# EAGLE library part XC3S250E-TQ144 (library ic-Xilinx)
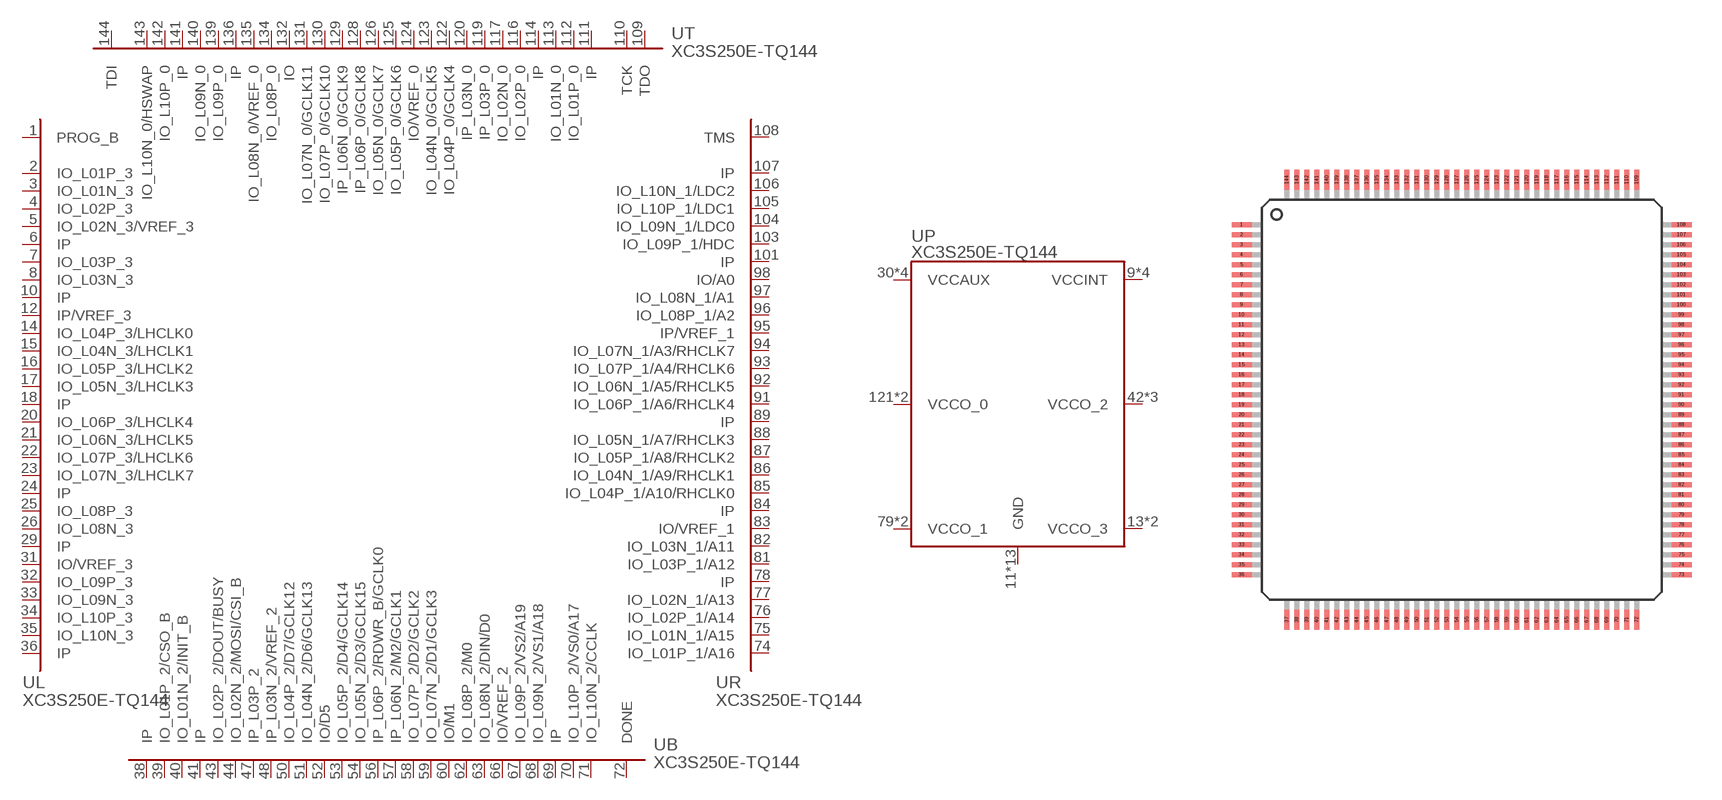
[diagram p1: symbol with the pads of QFP144-0.5; footprint QFP144-0.5]

Designator prefix U; gates L=XC3S250E-TQ144_LEFT B=XC3S250E-TQ144_BOTTOM R=XC3S250E-TQ144_RIGHT T=XC3S250E-TQ144_TOP P=XC3S250E-TQ144_POWER

## XC3S250E-TQ144  [QFP144-0.5]
1  L:PROG_B
2  L:IO_L01P_3
3  L:IO_L01N_3
4  L:IO_L02P_3
5  L:IO_L02N_3/VREF_3
6  L:IP
7  L:IO_L03P_3
8  L:IO_L03N_3
9  P:VCCINT
10  L:IP
11  P:GND
12  L:IP/VREF_3
13  P:VCCO_3
14  L:IO_L04P_3/LHCLK0
15  L:IO_L04N_3/LHCLK1
16  L:IO_L05P_3/LHCLK2
17  L:IO_L05N_3/LHCLK3
18  L:IP
19  P:GND
20  L:IO_L06P_3/LHCLK4
21  L:IO_L06N_3/LHCLK5
22  L:IO_L07P_3/LHCLK6
23  L:IO_L07N_3/LHCLK7
24  L:IP
25  L:IO_L08P_3
26  L:IO_L08N_3
27  P:GND
28  P:VCCO_3
29  L:IP
30  P:VCCAUX
31  L:IO/VREF_3
32  L:IO_L09P_3
33  L:IO_L09N_3
34  L:IO_L10P_3
35  L:IO_L10N_3
36  L:IP
37  P:GND
38  B:IP
39  B:IO_L01P_2/CSO_B
40  B:IO_L01N_2/INIT_B
41  B:IP
42  P:VCCO_2
43  B:IO_L02P_2/DOUT/BUSY
44  B:IO_L02N_2/MOSI/CSI_B
45  P:VCCINT
46  P:GND
47  B:IP_L03P_2
48  B:IP_L03N_2/VREF_2
49  P:VCCO_2
50  B:IO_L04P_2/D7/GCLK12
51  B:IO_L04N_2/D6/GCLK13
52  B:IO/D5
53  B:IO_L05P_2/D4/GCLK14
54  B:IO_L05N_2/D3/GCLK15
55  P:GND
56  B:IP_L06P_2/RDWR_B/GCLK0
57  B:IP_L06N_2/M2/GCLK1
58  B:IO_L07P_2/D2/GCLK2
59  B:IO_L07N_2/D1/GCLK3
60  B:IO/M1
61  P:GND
62  B:IO_L08P_2/M0
63  B:IO_L08N_2/DIN/D0
64  P:VCCO_2
65  P:VCCAUX
66  B:IO/VREF_2
67  B:IO_L09P_2/VS2/A19
68  B:IO_L09N_2/VS1/A18
69  B:IP
70  B:IO_L10P_2/VS0/A17
71  B:IO_L10N_2/CCLK
72  B:DONE
73  P:GND
74  R:IO_L01P_1/A16
75  R:IO_L01N_1/A15
76  R:IO_L02P_1/A14
77  R:IO_L02N_1/A13
78  R:IP
79  P:VCCO_1
80  P:VCCINT
81  R:IO_L03P_1/A12
82  R:IO_L03N_1/A11
83  R:IO/VREF_1
84  R:IP
85  R:IO_L04P_1/A10/RHCLK0
86  R:IO_L04N_1/A9/RHCLK1
87  R:IO_L05P_1/A8/RHCLK2
88  R:IO_L05N_1/A7/RHCLK3
89  R:IP
90  P:GND
91  R:IO_L06P_1/A6/RHCLK4
92  R:IO_L06N_1/A5/RHCLK5
93  R:IO_L07P_1/A4/RHCLK6
94  R:IO_L07N_1/A3/RHCLK7
95  R:IP/VREF_1
96  R:IO_L08P_1/A2
97  R:IO_L08N_1/A1
98  R:IO/A0
99  P:GND
100  P:VCCO_1
101  R:IP
102  P:VCCAUX
103  R:IO_L09P_1/HDC
104  R:IO_L09N_1/LDC0
105  R:IO_L10P_1/LDC1
106  R:IO_L10N_1/LDC2
107  R:IP
108  R:TMS
109  T:TDO
110  T:TCK
111  T:IP
112  T:IO_L01P_0
113  T:IO_L01N_0
114  T:IP
115  P:VCCINT
116  T:IO_L02P_0
117  T:IO_L02N_0
118  P:GND
119  T:IP_L03P_0
120  T:IP_L03N_0
121  P:VCCO_0
122  T:IO_L04P_0/GCLK4
123  T:IO_L04N_0/GCLK5
124  T:IO/VREF_0
125  T:IO_L05P_0/GCLK6
126  T:IO_L05N_0/GCLK7
127  P:GND
128  T:IP_L06P_0/GCLK8
129  T:IP_L06N_0/GCLK9
130  T:IO_L07P_0/GCLK10
131  T:IO_L07N_0/GCLK11
132  T:IO
133  P:GND
134  T:IO_L08P_0
135  T:IO_L08N_0/VREF_0
136  T:IP
137  P:VCCAUX
138  P:VCCO_0
139  T:IO_L09P_0
140  T:IO_L09N_0
141  T:IP
142  T:IO_L10P_0
143  T:IO_L10N_0/HSWAP
144  T:TDI

## Footprint QFP144-0.5 (pad centres in mm)
smd 1 x 0.25: 1 -11,8.75; 2 -11,8.25; 3 -11,7.75; 4 -11,7.25; 5 -11,6.75; 6 -11,6.25; 7 -11,5.75; 8 -11,5.25; 9 -11,4.75; 10 -11,4.25; 11 -11,3.75; 12 -11,3.25; 13 -11,2.75; 14 -11,2.25; 15 -11,1.75; 16 -11,1.25; 17 -11,0.75; 18 -11,0.25; 19 -11,-0.25; 20 -11,-0.75; 21 -11,-1.25; 22 -11,-1.75; 23 -11,-2.25; 24 -11,-2.75; 25 -11,-3.25; 26 -11,-3.75; 27 -11,-4.25; 28 -11,-4.75; 29 -11,-5.25; 30 -11,-5.75; 31 -11,-6.25; 32 -11,-6.75; 33 -11,-7.25; 34 -11,-7.75; 35 -11,-8.25; 36 -11,-8.75; 73 11,-8.75; 74 11,-8.25; 75 11,-7.75; 76 11,-7.25; 77 11,-6.75; 78 11,-6.25; 79 11,-5.75; 80 11,-5.25; 81 11,-4.75; 82 11,-4.25; 83 11,-3.75; 84 11,-3.25; 85 11,-2.75; 86 11,-2.25; 87 11,-1.75; 88 11,-1.25; 89 11,-0.75; 90 11,-0.25; 91 11,0.25; 92 11,0.75; 93 11,1.25; 94 11,1.75; 95 11,2.25; 96 11,2.75; 97 11,3.25; 98 11,3.75; 99 11,4.25; 100 11,4.75; 101 11,5.25; 102 11,5.75; 103 11,6.25; 104 11,6.75; 105 11,7.25; 106 11,7.75; 107 11,8.25; 108 11,8.75
smd 0.25 x 1: 37 -8.75,-11; 38 -8.25,-11; 39 -7.75,-11; 40 -7.25,-11; 41 -6.75,-11; 42 -6.25,-11; 43 -5.75,-11; 44 -5.25,-11; 45 -4.75,-11; 46 -4.25,-11; 47 -3.75,-11; 48 -3.25,-11; 49 -2.75,-11; 50 -2.25,-11; 51 -1.75,-11; 52 -1.25,-11; 53 -0.75,-11; 54 -0.25,-11; 55 0.25,-11; 56 0.75,-11; 57 1.25,-11; 58 1.75,-11; 59 2.25,-11; 60 2.75,-11; 61 3.25,-11; 62 3.75,-11; 63 4.25,-11; 64 4.75,-11; 65 5.25,-11; 66 5.75,-11; 67 6.25,-11; 68 6.75,-11; 69 7.25,-11; 70 7.75,-11; 71 8.25,-11; 72 8.75,-11; 109 8.75,11; 110 8.25,11; 111 7.75,11; 112 7.25,11; 113 6.75,11; 114 6.25,11; 115 5.75,11; 116 5.25,11; 117 4.75,11; 118 4.25,11; 119 3.75,11; 120 3.25,11; 121 2.75,11; 122 2.25,11; 123 1.75,11; 124 1.25,11; 125 0.75,11; 126 0.25,11; 127 -0.25,11; 128 -0.75,11; 129 -1.25,11; 130 -1.75,11; 131 -2.25,11; 132 -2.75,11; 133 -3.25,11; 134 -3.75,11; 135 -4.25,11; 136 -4.75,11; 137 -5.25,11; 138 -5.75,11; 139 -6.25,11; 140 -6.75,11; 141 -7.25,11; 142 -7.75,11; 143 -8.25,11; 144 -8.75,11